# EAGLE library part IC_COMP_W_SD (library ic-comparator-maxim-max9030)
OpAmp w/ enable
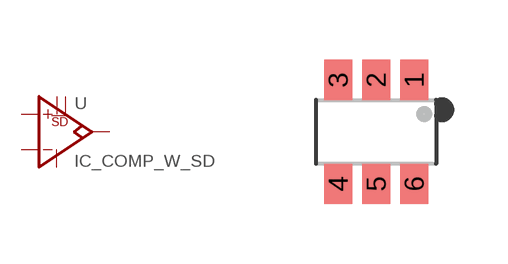
[diagram p0: symbol with the pads of SOT23-6; footprint SOT23-6]

Designator prefix U; gates A=OPAMP_W/ENABLE PWR=VCC+GND

## IC_COMP_W_SDSOT23-6  [SOT23-6]
1  A:+IN  in
2  PWR:VSS  pwr
3  A:-IN  in
4  A:OUT  out
5  A:!SD  in
6  PWR:VDD  pwr

## Footprint SOT23-6 (pad centres in mm)
SOT23-6 Small Outline Transistor, standard 6-pin package
smd 0.7 x 1: 1 0.95,1.3; 2 0,1.3; 3 -0.95,1.3; 4 -0.95,-1.3; 5 0,-1.3; 6 0.95,-1.3